# EAGLE library part PIN-22X1 (library jkf)
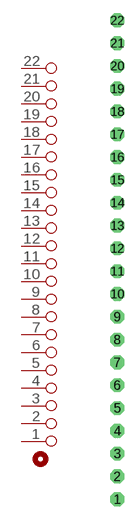
[diagram p10: symbol with the pads of PIN-22X1; footprint PIN-22X1]

Designator prefix H

## PIN-22X1  [PIN-22X1]
1  1  pas
2  2  pas
3  3  pas
4  4  pas
5  5  pas
6  6  pas
7  7  pas
8  8  pas
9  9  pas
10  10  pas
11  11  pas
12  12  pas
13  13  pas
14  14  pas
15  15  pas
16  16  pas
17  17  pas
18  18  pas
19  19  pas
20  20  pas
21  21  pas
22  22  pas

## Footprint PIN-22X1 (pad centres in mm)
drill 1.016 octagon: 1 0,-25.4; 2 0,-22.86; 3 0,-20.32; 4 0,-17.78; 5 0,-15.24; 6 0,-12.7; 7 0,-10.16; 8 0,-7.62; 9 0,-5.08; 10 0,-2.54; 11 0,0; 12 0,2.54; 13 0,5.08; 14 0,7.62; 15 0,10.16; 16 0,12.7; 17 0,15.24; 18 0,17.78; 19 0,20.32; 20 0,22.86; 21 0,25.4; 22 0,27.94